# Altium footprint library Ek_footprint.PcbLib: 18 footprints (part 2 of 2)
Each footprint in its own frame and in the unit in brackets; x right, y up, seen from the top. Pads: shape width x height; smd on the part's side, far side on the other; paste and mask are expansions set on the pad; w line width, h text height; cw(c..) or ccw(c..) is an arc to the next point about the centre after c.
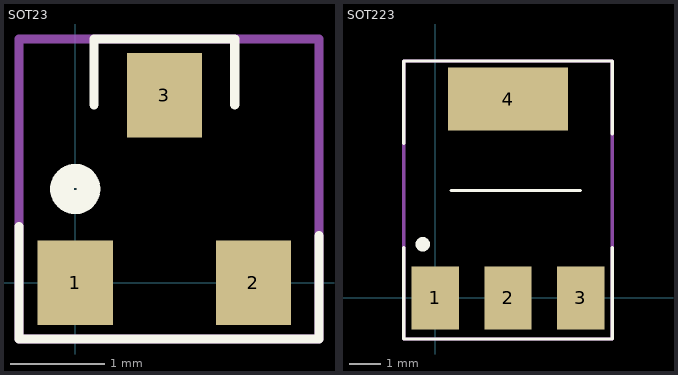
[diagram p1: the footprints below, top view; thin cyan lines are the x and y axes]

## SOT23 [mm]
pads (3):
  rect 0.8x0.9 smd mask+0.05: 1(0,0) 2(1.9,0) 3(0.95,2)
Top Overlay:
  circle w0.254: c0,1 r0.141
  lines w0.1: -0.6,0.6 -0.6,-0.6 2.5,-0.6 2.6,-0.6 ; 0.2,1.9 0.2,2.6 1.7,2.6 1.7,1.9 ; 2.6,0.5 2.6,-0.6 ; 2.6,-0.6 2.6,-0.6
Mechanical 1:
  lines w0.1: -0.6,-0.6 -0.6,2.6 2.6,2.6 2.6,-0.6 -0.6,-0.6
3D body "CircuitWorks-SOT-23.step": height 1.1, standoff 0, extent -0.5,-0.25 2.5,2.25

## SOT223 [mm]
pads (4):
  rect 1.5x2 smd mask+0.05: 1(0,0) 2(2.3,0) 3(4.6,0)
  rect 3.8x2 smd mask+0.05: 4(2.3,6.3)
Top Overlay:
  circle w0.254: c-0.4,1.7 r0.1
  lines w0.1: -1,1.6 -1,-1.3 5.6,-1.3 5.6,1.6 ; -1,4.9 -1,7.5 5.6,7.5 5.6,5.2 ; 0.5,3.4 4.6,3.4
Mechanical 1:
  lines w0.1: -1,-1.3 -1,7.5 5.6,7.5 5.6,-1.3 -1,-1.3
3D body "AMS1117.step": height 1.85, standoff -0.01, extent -0.952,-0.3 5.553,6.7